# Altium footprint library DRV8874.PcbLib: 1 footprints
Each footprint in its own frame and in the unit in brackets; x right, y up, seen from the top. Pads: shape width x height; smd on the part's side, far side on the other; paste and mask are expansions set on the pad; w line width, h text height; cw(c..) or ccw(c..) is an arc to the next point about the centre after c.
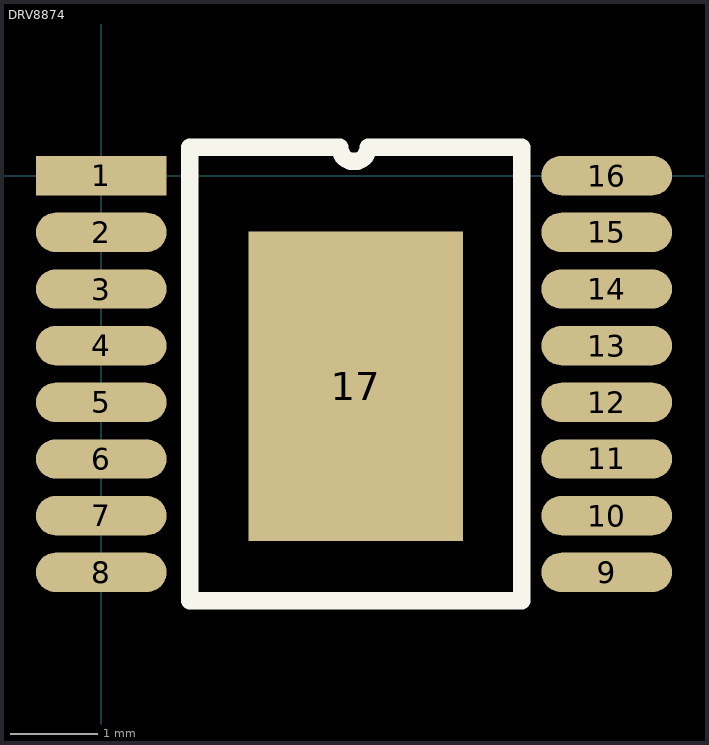
[diagram p0: the footprint, top view; thin cyan lines are the x and y axes]

## DRV8874 [mm]
pads (17):
  rect 1.5x0.45 smd: 1(0,0)
  oval 1.5x0.45 smd: 2(0,-0.65) 3(0,-1.3) 4(0,-1.95) 5(0,-2.6) 6(0,-3.25) 7(0,-3.9) 8(0,-4.55) 9(5.8,-4.55) 10(5.8,-3.9) 11(5.8,-3.25) 12(5.8,-2.6) 13(5.8,-1.95) 14(5.8,-1.3) 15(5.8,-0.65) 16(5.8,0)
  rect 2.46x3.55 smd: 17(2.921,-2.413)
Top Overlay:
  lines w0.2: 1.016,-4.875 1.016,0.325 2.738,0.325 ccw(c2.9,0.325) 3.062,0.325 4.826,0.325 4.826,-4.875 1.016,-4.875
  text ".Designator" at 0,1.397 h1.52
3D body "DRV8874PWPR.STEP": height 1.2, standoff 0, extent -0.279,-4.826 6.121,0.174